# Altium footprint library Semiconductor.PcbLib: 2 footprints
Each footprint in its own frame and in the unit in brackets; x right, y up, seen from the top. Pads: shape width x height; smd on the part's side, far side on the other; paste and mask are expansions set on the pad; w line width, h text height; cw(c..) or ccw(c..) is an arc to the next point about the centre after c.
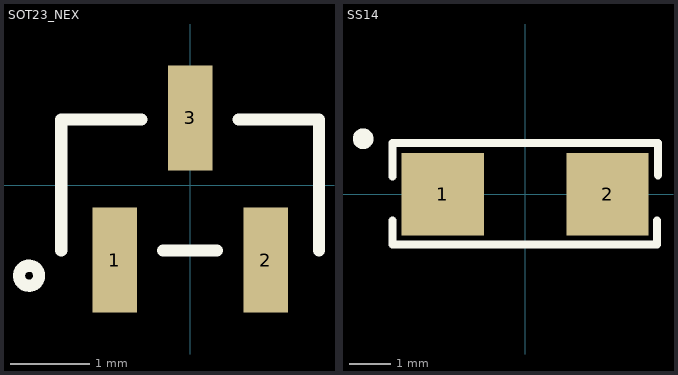
[diagram p0: the footprints below, top view; thin cyan lines are the x and y axes]

## SOT23_NEX [mil]
pads (3):
  rect 22x52 smd paste+0 mask+4: 1(-37.5,-37.21) 2(37.5,-37.21) 3(0,33.36)
Top Overlay:
  circle w6: c-80,-45 r5
  lines w6: -64,-32.5 -64,32.5 -24.1,32.5 ; -13.4,-32.5 13.4,-32.5 ; 24.1,32.5 64,32.5 64,-32.5
3D body: height 10, standoff 0, extent 0,0 10,10
3D body "SOT23_NEX.step": height 43.11, standoff 0, extent -59.01,-54.21 59.02,44.22

## SS14 [mm]
height 2.3
pads (2):
  rect 1.999x1.999 smd: 1(-2,0) 2(2,0)
Top Overlay:
  circle w0.25: c-3.937,1.346 r0.125
  lines w0.2: -3.226,-0.638 -3.226,-1.219 3.2,-1.219 3.2,-0.638 ; -3.226,0.432 -3.226,1.245 3.226,1.245 ; 3.226,0.457 3.226,1.219
3D body "DIOM5326X230N.stp": height 2.3, standoff 0, extent -2.75,-1.4 2.75,1.4